# Altium schematic symbol library PowerTransducer.SchLib: 69 symbols
Pins are listed as number, name and electrical type; pins without a type are passive.

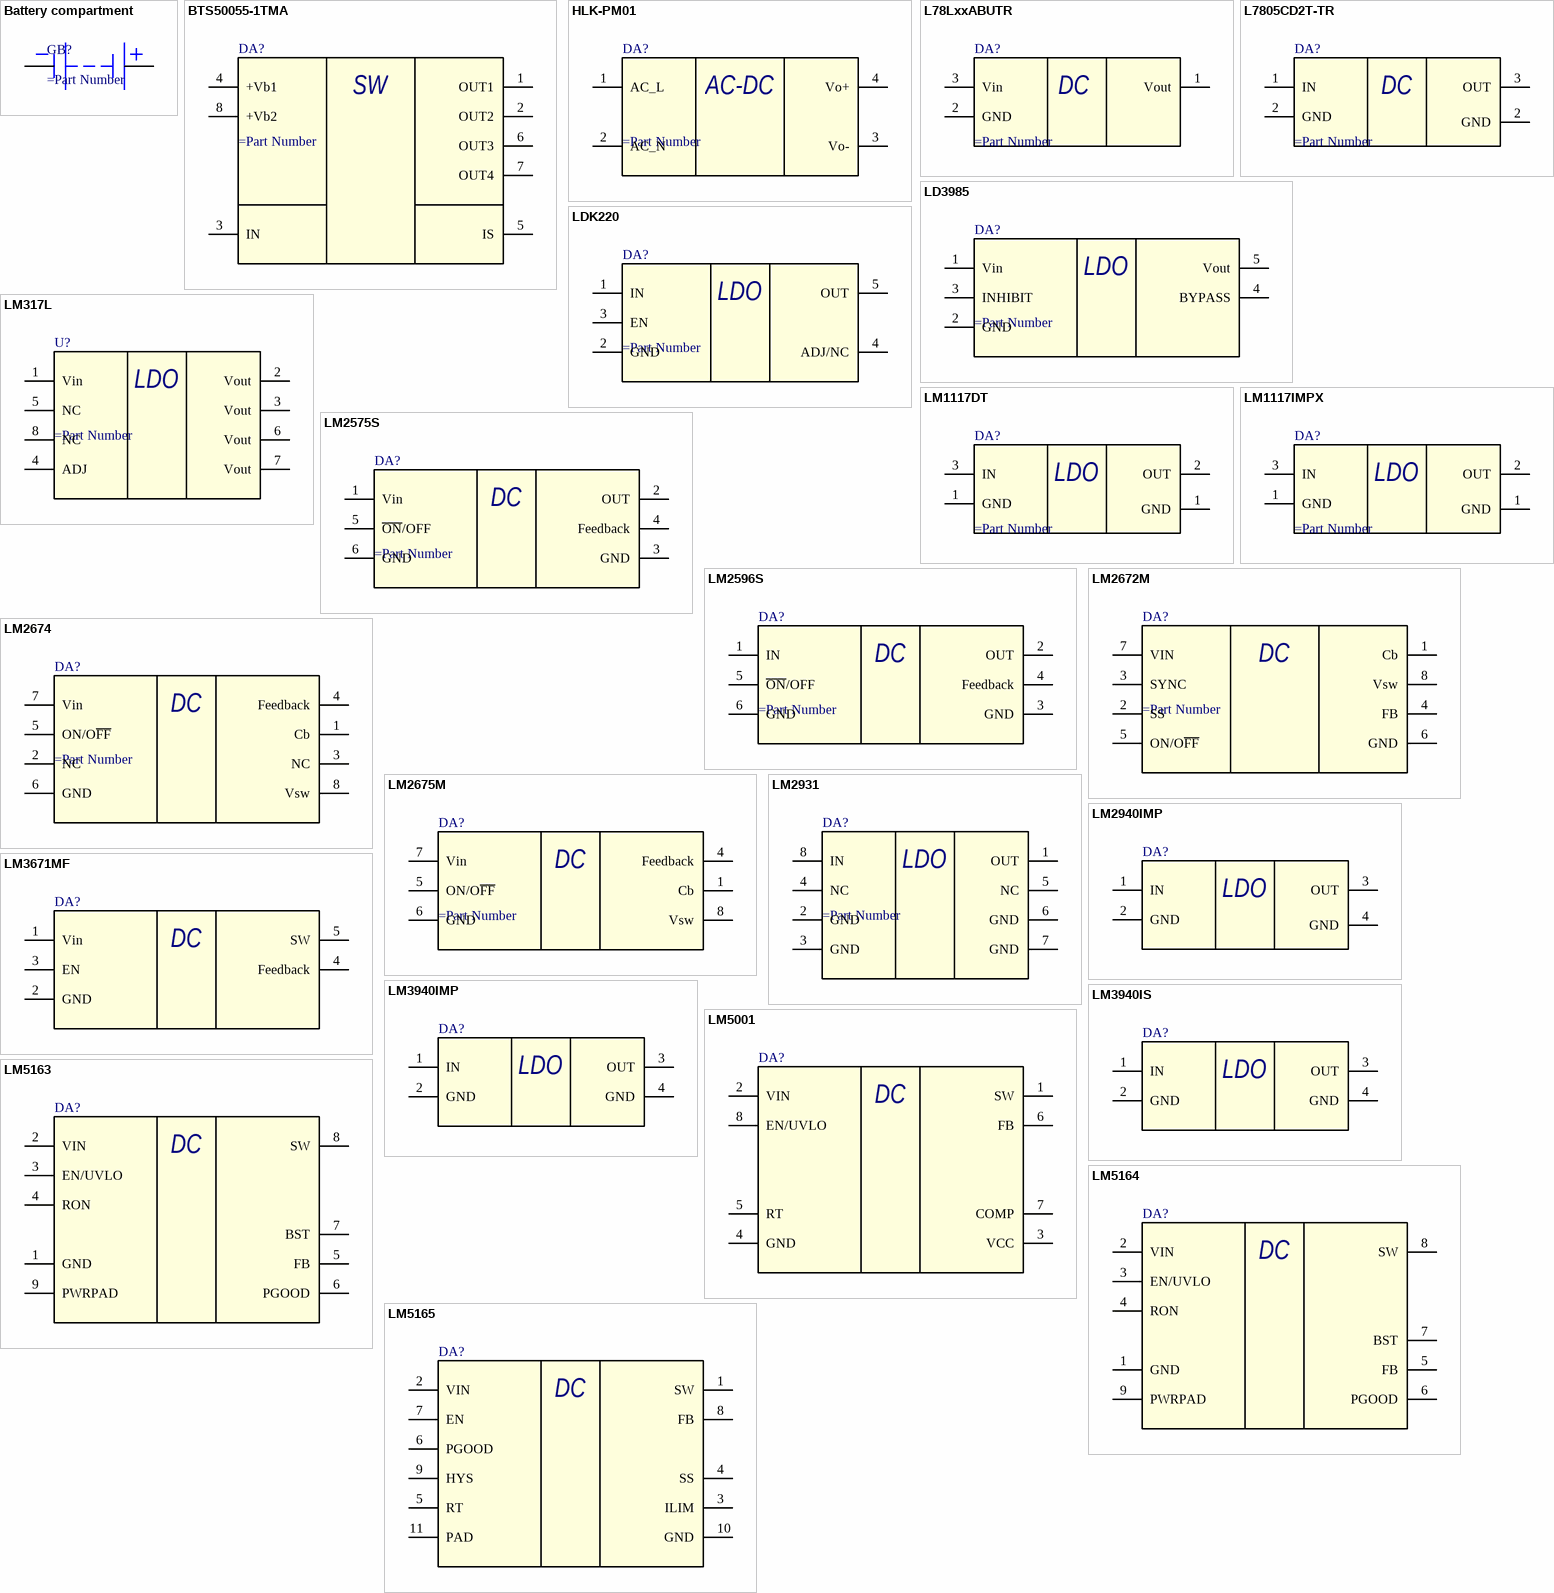
[diagram p0: symbols Battery compartment to LM5165]

## Battery compartment
designator GB?
pins: 1, 2

## BTS50055-1TMA
designator DA?
Smart Highside High Current Power Switch
pins: 1 OUT1 (power), 2 OUT2 (power), 3 IN (power), 4 +Vb1 (power), 5 IS (power), 6 OUT3 (power), 7 OUT4 (power), 8 +Vb2 (power)
text: SW

## HLK-PM01
designator DA?
AC/DC Transducer
pins: 1 AC_L (power), 2 AC_N (power), 3 Vo- (power), 4 Vo+ (power)
text: AC-DC

## L78LxxABUTR
designator DA?
Cтабилизатор напряжения (+3,3В; 0.1А), 4%, (-40...+125C)
pins: 1 Vout (power), 2 GND (power), 3 Vin (power)
text: DC

## L7805CD2T-TR
designator DA?
Регулятор положительного напряжения
pins: 1 IN (power), 2 GND (power), 2 GND (power), 3 OUT (power)
text: DC

## LD3985
designator DA?
Ultra low drop and low noise BiCMOS voltage regulators
pins: 1 Vin (power), 2 GND (power), 3 INHIBIT (power), 4 BYPASS (power), 5 Vout (power)
text: LDO

## LDK220
designator DA?
low quiescent current and low noise LDO
pins: 1 IN (power), 2 GND (power), 3 EN (power), 4 ADJ/NC (power), 5 OUT (power)
text: LDO

## LM317L
designator U?
Низкопотребляемый трехтерминальный регулируемый регулятор напряжения
pins: 1 Vin (power), 2 Vout (power), 3 Vout (power), 4 ADJ (power), 5 NC (power), 6 Vout (power), 7 Vout (power), 8 NC (power)
text: LDO

## LM1117DT
designator DA?
Low-Dropout Regulator for 5-V to 3.3-V Conversion
pins: 1 GND (power), 1 GND (power), 2 OUT (power), 3 IN (power)
text: LDO

## LM1117IMPX
designator DA?
Low-Dropout Regulator for 5-V to 3.3-V Conversion
pins: 1 GND (power), 1 GND (power), 2 OUT (power), 3 IN (power)
text: LDO

## LM2575S
designator DA?
1-A Step-Down Voltage Regulator
pins: 1 Vin (power), 2 OUT (power), 3 GND (power), 4 Feedback (power), 5 ~{ON}/OFF (power), 6 GND (power)
text: DC

## LM2596S
designator DA?
3-A Step-Down Voltage Regulator
pins: 1 IN (power), 2 OUT (power), 3 GND (power), 4 Feedback (power), 5 ~{ON}/OFF (power), 6 GND (power)
text: DC

## LM2672M
designator DA?
Power Converter High Efficiency 1-A Step-Down Voltage
pins: 1 Cb (power), 2 SS (power), 3 SYNC (power), 4 FB (power), 5 ON/O~{FF} (power), 6 GND (power), 7 VIN (power), 8 Vsw (power)
text: DC

## LM2674
designator DA?
Power Converter High Efficiency 1A Step-Down Voltage  Regulator
pins: 1 Cb (power), 2 NC (power), 3 NC (power), 4 Feedback (power), 5 ON/O~{FF} (power), 6 GND (power), 7 Vin (power), 8 Vsw (power)
text: DC

## LM2675M
designator DA?
Power Converter High Efficiency 1A Step-Down Voltage  Regulator
pins: 1 Cb (power), 4 Feedback (power), 5 ON/O~{FF} (power), 6 GND (power), 7 Vin (power), 8 Vsw (power)
text: DC

## LM2931
designator DA?
Low-Dropout Regulator for 5-V to 3.3-V Conversion
pins: 1 OUT (power), 2 GND (power), 3 GND (power), 4 NC (power), 5 NC (power), 6 GND (power), 7 GND (power), 8 IN (power)
text: LDO

## LM2940IMP
designator DA?
Low-Dropout Regulator for 5-V to 3.3-V Conversion
pins: 1 IN (power), 2 GND (power), 3 OUT (power), 4 GND (power)
text: LDO

## LM3671MF
designator DA?
Step-Down DC-DC Converter
pins: 1 Vin (power), 2 GND (power), 3 EN (power), 4 Feedback (power), 5 SW (power)
text: DC

## LM3940IMP
designator DA?
Low-Dropout Regulator for 5-V to 3.3-V Conversion
pins: 1 IN (power), 2 GND (power), 3 OUT (power), 4 GND (power)
text: LDO

## LM3940IS
designator DA?
Low-Dropout Regulator for 5-V to 3.3-V Conversion
pins: 1 IN (power), 2 GND (power), 3 OUT (power), 4 GND (power)
text: LDO

## LM5001
designator DA?
High-Voltage Switch-Mode Regulator
pins: 1 SW (power), 2 VIN (power), 3 VCC (power), 4 GND (power), 5 RT (power), 6 FB (power), 7 COMP (power), 8 EN/UVLO (power)
text: DC

## LM5163
designator DA?
1-A synchronous buck DC/DC converter with ultra-low IQ
pins: 1 GND (power), 2 VIN (power), 3 EN/UVLO (power), 4 RON (power), 5 FB (power), 6 PGOOD (power), 7 BST (power), 8 SW (power), 9 PWRPAD (power)
text: DC

## LM5164
designator DA?
1-A synchronous buck DC/DC converter with ultra-low IQ
pins: 1 GND (power), 2 VIN (power), 3 EN/UVLO (power), 4 RON (power), 5 FB (power), 6 PGOOD (power), 7 BST (power), 8 SW (power), 9 PWRPAD (power)
text: DC

## LM5165
designator DA?
1-A Synchronous Buck Converter
pins: 1 SW (power), 2 VIN (power), 3 ILIM (power), 4 SS (power), 5 RT (power), 6 PGOOD (power), 7 EN (power), 8 FB (power), 9 HYS (power), 10 GND (power), 11 PAD (power)
text: DC

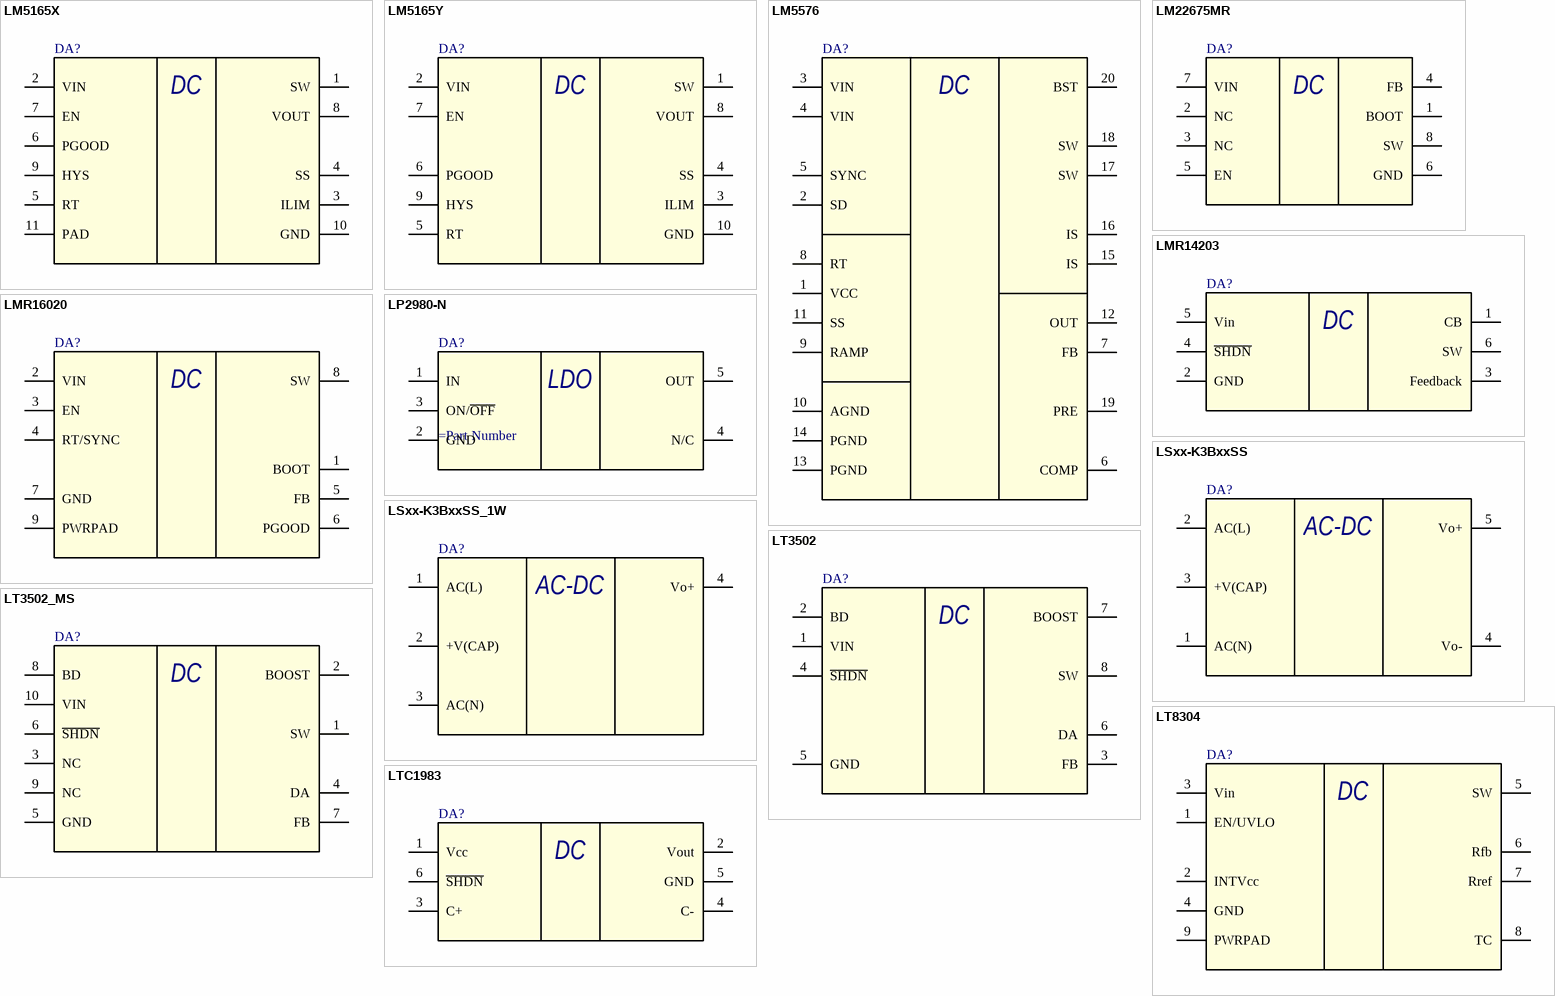
[diagram p1: symbols LM5165X to LTC1983]

## LM5165X
designator DA?
1-A Synchronous Buck Converter
pins: 1 SW (power), 2 VIN (power), 3 ILIM (power), 4 SS (power), 5 RT (power), 6 PGOOD (power), 7 EN (power), 8 VOUT (power), 9 HYS (power), 10 GND (power), 11 PAD (power)
text: DC

## LM5165Y
designator DA?
1-A Synchronous Buck Converter
pins: 1 SW (power), 2 VIN (power), 3 ILIM (power), 4 SS (power), 5 RT (power), 6 PGOOD (power), 7 EN (power), 8 VOUT (power), 9 HYS (power), 10 GND (power)
text: DC

## LM5576
designator DA?
75 V, 3 A Step-Down Switching Regulator
pins: 1 VCC (power), 2 SD (power), 3 VIN (power), 4 VIN (power), 5 SYNC (power), 6 COMP (power), 7 FB (power), 8 RT (power), 9 RAMP (power), 10 AGND (power), 11 SS (power), 12 OUT (power), 13 PGND (power), 14 PGND (power), 15 IS (power), 16 IS (power), 17 SW (power), 18 SW (power), 19 PRE (power), 20 BST (power)
text: DC

## LM22675MR
designator DA?
3-A Step-Down Voltage Regulator
pins: 1 BOOT (power), 2 NC (power), 3 NC (power), 4 FB (power), 5 EN (power), 6 GND (power), 7 VIN (power), 8 SW (power)
text: DC

## LMR14203
designator DA?
Step-Down DC-DC Converter
pins: 1 CB (power), 2 GND (power), 3 Feedback (power), 4 ~{SHDN} (power), 5 Vin (power), 6 SW (power)
text: DC

## LMR16020
designator DA?
SIMPLE SWITCHER® 60 V, 2 A Step-Down Converter With 40 µA IQ
pins: 1 BOOT (power), 2 VIN (power), 3 EN (power), 4 RT/SYNC (power), 5 FB (power), 6 PGOOD (power), 7 GND (power), 8 SW (power), 9 PWRPAD (power)
text: DC

## LP2980-N
designator DA?
Micropower 50-mA Ultra-Low-Dropout Regulator
pins: 1 IN (power), 2 GND (power), 3 ON/~{OFF} (power), 4 N/C (power), 5 OUT (power)
text: LDO

## LSxx-K3BxxSS
designator DA?
ULTRA-LIGHT COMPACT AC-DC Converter
pins: 1 AC(N) (power), 2 AC(L) (power), 3 +V(CAP) (power), 4 Vo- (power), 5 Vo+ (power)
text: AC-DC

## LSxx-K3BxxSS_1W
designator DA?
ULTRA-LIGHT COMPACT AC-DC Converter
pins: 1 AC(L) (power), 2 +V(CAP) (power), 3 AC(N) (power), 4 Vo+ (power)
text: AC-DC

## LT3502
designator DA?
1.1MHz/2.2MHz, 500mA  Step-Down Regulators
pins: 1 VIN (power), 2 BD (power), 3 FB (power), 4 ~{SHDN} (power), 5 GND (power), 6 DA (power), 7 BOOST (power), 8 SW (power)
text: DC

## LT3502_MS
designator DA?
1.1MHz/2.2MHz, 500mA  Step-Down Regulators
pins: 1 SW (power), 2 BOOST (power), 3 NC (power), 4 DA (power), 5 GND (power), 6 ~{SHDN} (power), 7 FB (power), 8 BD (power), 9 NC (power), 10 VIN (power)
text: DC

## LT8304
designator DA?
No-Opto Isolated Flyback  Converter
pins: 1 EN/UVLO (power), 2 INTVcc (power), 3 Vin (power), 4 GND (power), 5 SW (power), 6 Rfb (power), 7 Rref (power), 8 TC (power), 9 PWRPAD
text: DC

## LTC1983
designator DA?
100mA Regulated  Charge-Pump Inverters  in ThinSOT
pins: 1 Vcc (power), 2 Vout (power), 3 C+ (power), 4 C- (power), 5 GND (power), 6 ~{SHDN} (power)
text: DC

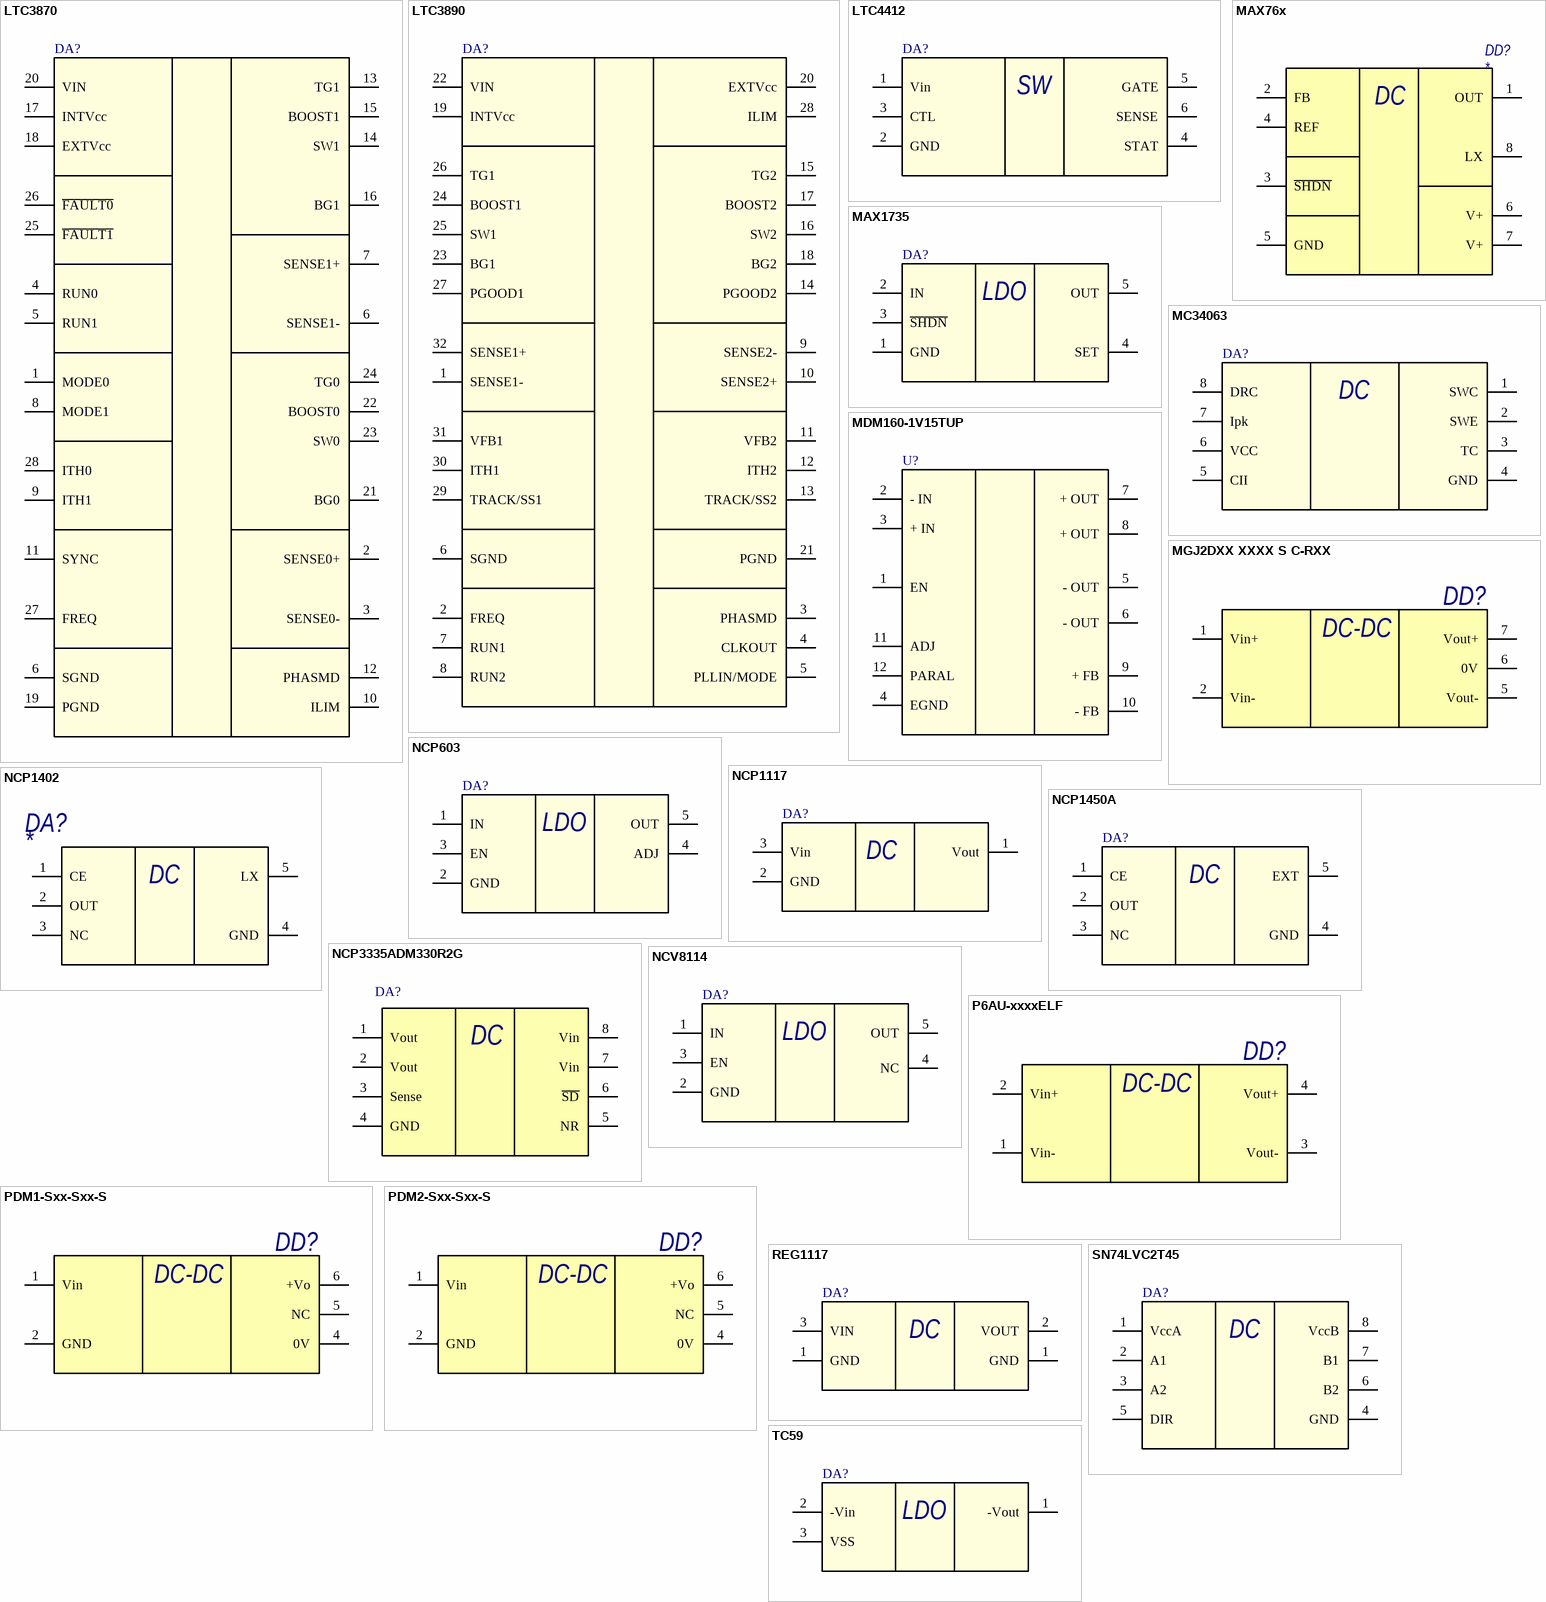
[diagram p2: symbols LTC3870 to TC59]

## LTC3870
designator DA?
PolyPhase Step-Down  Slave Controller for Digital  Power System Management
pins: 1 MODE0 (power), 2 SENSE0+ (power), 3 SENSE0- (power), 4 RUN0 (power), 5 RUN1 (power), 6 SENSE1- (power), 6 SGND (power), 7 SENSE1+ (power), 8 MODE1 (power), 9 ITH1 (power), 10 ILIM (power), 11 SYNC (power), 12 PHASMD (power), 13 TG1 (power), 14 SW1 (power), 15 BOOST1 (power), 16 BG1 (power), 17 INTVcc (power), 18 EXTVcc (power), 19 PGND (power), 20 VIN (power), 21 BG0 (power), 22 BOOST0 (power), 23 SW0 (power), 24 TG0 (power), 25 ~{FAULT1} (power), 26 ~{FAULT0} (power), 27 FREQ (power), 28 ITH0 (power)

## LTC3890
designator DA?
60V Low IQ, Dual, 2-Phase  Synchronous Step-Down  DC/DC Controller
pins: 1 SENSE1- (power), 2 FREQ (power), 3 PHASMD (power), 4 CLKOUT (power), 5 PLLIN/MODE (power), 6 SGND (power), 7 RUN1 (power), 8 RUN2 (power), 9 SENSE2- (power), 10 SENSE2+ (power), 11 VFB2 (power), 12 ITH2 (power), 13 TRACK/SS2 (power), 14 PGOOD2 (power), 15 TG2 (power), 16 SW2 (power), 17 BOOST2 (power), 18 BG2 (power), 19 INTVcc (power), 20 EXTVcc (power), 21 PGND (power), 22 VIN (power), 23 BG1 (power), 24 BOOST1 (power), 25 SW1 (power), 26 TG1 (power), 27 PGOOD1 (power), 28 ILIM (power), 29 TRACK/SS1 (power), 30 ITH1 (power), 31 VFB1 (power), 32 SENSE1+ (power)

## LTC4412
designator DA?
Low Loss PowerPath Controller
pins: 1 Vin (power), 2 GND (power), 3 CTL (power), 4 STAT (power), 5 GATE (power), 6 SENSE (power)
text: SW

## MAX76x
designator DD?
-5V/-12V/-15V or Adjustable,  High-Efficiency, Low IQ DC-DC Inverters
pins: 1 OUT, 2 FB, 3 ~{SHDN}, 4 REF, 5 GND, 6 V+, 7 V+, 8 LX
text: DC

## MAX1735
designator DA?
Negative-Output, Low-Dropout  Linear Regulator
pins: 1 GND (power), 2 IN (power), 3 ~{SHDN} (power), 4 SET (power), 5 OUT (power)
text: LDO

## MC34063
designator DA?
1.5 A, Step-Up/Down/  Inverting Switching  Regulators
pins: 1 SWC (power), 2 SWE (power), 3 TC (power), 4 GND (power), 5 CII (power), 6 VCC (power), 7 Ipk (power), 8 DRC (power)
text: DC

## MDM160-1V15TUP
designator U?
sda
pins: 1 EN (power), 2 - IN (power), 3 + IN (power), 4 EGND (power), 5 - OUT (power), 6 - OUT (power), 7 + OUT (power), 8 + OUT (power), 9 + FB (power), 10 - FB (power), 11 ADJ (power), 12 PARAL (power)

## MGJ2DXX XXXX S C-RXX
designator DD?
DC/DC преобразователь
pins: 1 Vin+, 2 Vin-, 5 Vout-, 6 0V, 7 Vout+
text: DC-DC

## NCP603
designator DA?
High Performance  CMOS LDO Regulator with  Enable and Enhanced ESD  Protection
pins: 1 IN (power), 2 GND (power), 3 EN (power), 4 ADJ (power), 5 OUT (power)
text: LDO

## NCP1117
designator DA?
Cтабилизатор напряжения (+5В; 1А)
pins: 1 Vout (power), 2 GND (power), 3 Vin (power)
text: DC

## NCP1402
designator DA?
Step-up DC-DC Converter for 2-V to 3.3-V
pins: 1 CE (power), 2 OUT (power), 3 NC (power), 4 GND (power), 5 LX (power)
text: DC

## NCP1450A
designator DA?
PWM Step−up DC−DC  Controller
pins: 1 CE (power), 2 OUT (power), 3 NC (power), 4 GND (power), 5 EXT (power)
text: DC

## NCP3335ADM330R2G
designator DA?
Линейный стабилизатор напряжения, фиксированный выход
pins: 1 Vout, 2 Vout, 3 Sense, 4 GND, 5 NR, 6 ~{SD}, 7 Vin, 8 Vin
text: DC

## NCV8114
designator DA?
300 mA CMOS Low Dropout  Regulator
pins: 1 IN (power), 2 GND (power), 3 EN (power), 4 NC (power), 5 OUT (power)
text: LDO

## P6AU-xxxxELF
designator DD?
DC/DC преобразователь
pins: 1 Vin-, 2 Vin+, 3 Vout-, 4 Vout+
text: DC-DC

## PDM1-Sxx-Sxx-S
designator DD?
DC/DC преобразователь изолированный
pins: 1 Vin, 2 GND, 4 0V, 5 NC, 6 +Vo
text: DC-DC

## PDM2-Sxx-Sxx-S
designator DD?
DC/DC преобразователь изолированный
pins: 1 Vin, 2 GND, 4 0V, 5 NC, 6 +Vo
text: DC-DC

## REG1117
designator DA?
Low-Dropout Regulator
pins: 1 GND (power), 1 GND (power), 2 VOUT (power), 3 VIN (power)
text: DC

## SN74LVC2T45
designator DA?
Dual-Bit Dual-Supply Bus Transceiver
pins: 1 VccA (power), 2 A1 (power), 3 A2 (power), 4 GND (power), 5 DIR (power), 6 B2 (power), 7 B1 (power), 8 VccB (power)
text: DC

## TC59
designator DA?
Low Dropout, Negative Output Voltage Regulator
pins: 1 -Vout (power), 2 -Vin (power), 3 VSS (power)
text: LDO

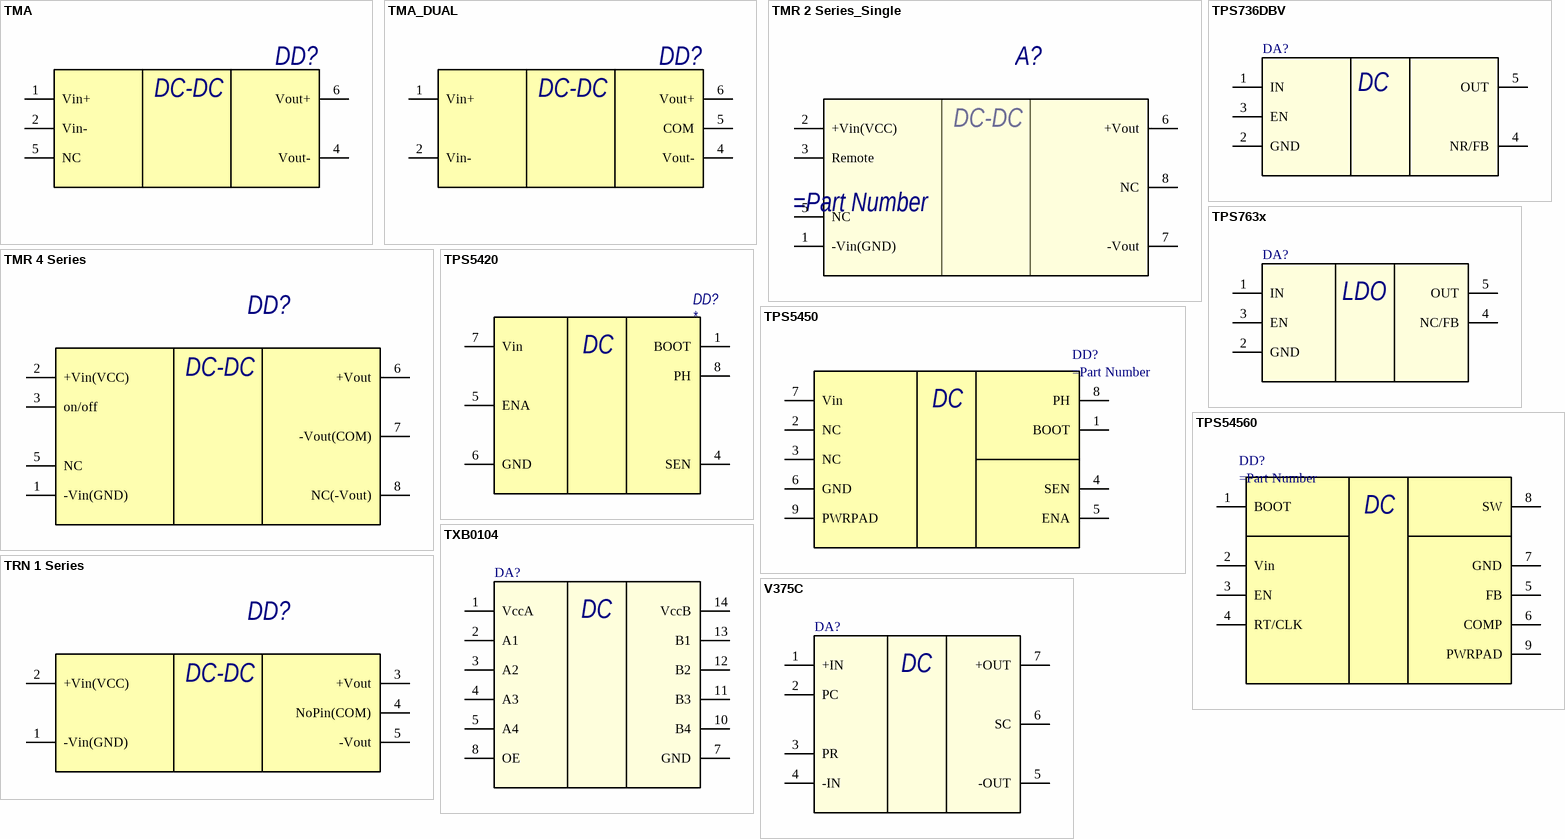
[diagram p3: symbols TMA to V375C]

## TMA
designator DD?
DC/DC преобразователь
pins: 1 Vin+, 2 Vin-, 4 Vout-, 5 NC, 6 Vout+
text: DC-DC

## TMA_DUAL
designator DD?
DC/DC преобразователь
pins: 1 Vin+, 2 Vin-, 4 Vout-, 5 COM, 6 Vout+
text: DC-DC

## TMR 2 Series_Single
designator A?
DC/DC преобразователь изолированный
pins: 1 -Vin(GND), 2 +Vin(VCC), 3 Remote, 5 NC, 6 +Vout, 7 -Vout, 8 NC
text: DC-DC

## TMR 4 Series
designator DD?
DC/DC преобразователь изолированный
pins: 1 -Vin(GND), 2 +Vin(VCC), 3 on/off, 5 NC, 6 +Vout, 7 -Vout(COM), 8 NC(-Vout)
text: DC-DC

## TPS736DBV
designator DA?
400-mA Low-Dropout Regulator with Reverse Current  Protection
pins: 1 IN (power), 2 GND (power), 3 EN (power), 4 NR/FB (power), 5 OUT (power)
text: DC

## TPS763x
designator DA?
Low-Dropout Regulator
pins: 1 IN (power), 2 GND (power), 3 EN (power), 4 NC/FB (power), 5 OUT (power)
text: LDO

## TPS5420
designator DD?
2-A, WIDE INPUT RANGE, STEP-DOWN CONVERTER
pins: 1 BOOT, 4 SEN, 5 ENA, 6 GND, 7 Vin, 8 PH
text: DC

## TPS5450
designator DD?
5-A, Wide Input Range, Step-Down Converter
pins: 1 BOOT, 2 NC, 3 NC, 4 SEN, 5 ENA, 6 GND, 7 Vin, 8 PH, 9 PWRPAD
text: DC

## TPS54560
designator DD?
5-A, Wide Input Range, Step-Down Converter
pins: 1 BOOT, 2 Vin, 3 EN, 4 RT/CLK, 5 FB, 6 COMP, 7 GND, 8 SW, 9 PWRPAD
text: DC

## TRN 1 Series
designator DD?
DC/DC преобразователь изолированный
pins: 1 -Vin(GND), 2 +Vin(VCC), 3 +Vout, 4 NoPin(COM), 5 -Vout
text: DC-DC

## TXB0104
designator DA?
4-Bit Bidirectional Voltage-level Translator
pins: 1 VccA (power), 2 A1 (power), 3 A2 (power), 4 A3 (power), 5 A4 (power), 7 GND (power), 8 OE (power), 10 B4 (power), 11 B3 (power), 12 B2 (power), 13 B1 (power), 14 VccB (power)
text: DC

## V375C
designator DA?
DC-DC Converter Module
pins: 1 +IN (power), 2 PC (power), 3 PR (power), 4 -IN (power), 5 -OUT (power), 6 SC (power), 7 +OUT (power)
text: DC